# EAGLE library part Z8*0X12 (library untitled)
Z8 Encore, no ADC, 28-pin packages ZiLOG Z8 Encore 8K Series http://www.zilog.com/ (Replace 'X' in part number with '4' or '8') Replace 'X' in any part number with '4' or '8' Z8Fxxxx are Flash-based parts Z8Rxxxx are Mask ROM parts
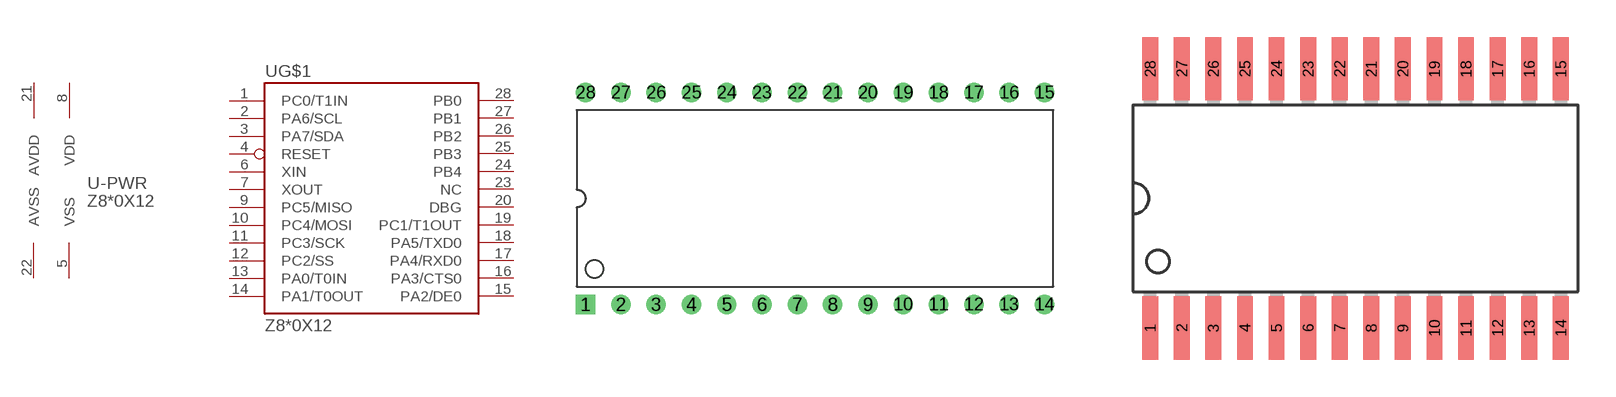
[diagram p2: symbol with the pads of PDIP-28; footprints PDIP-28, SOIC-28]

Designator prefix U; gates G$1=Z8*0X12 -PWR=PWR2A2

## Z8F0X12PJ, Z8R0X12PJ  [PDIP-28]
1  G$1:PC0/T1IN
2  G$1:PA6/SCL
3  G$1:PA7/SDA
4  G$1:RESET  in
5  -PWR:VSS  pwr
6  G$1:XIN  pas
7  G$1:XOUT  pas
8  -PWR:VDD  pwr
9  G$1:PC5/MISO
10  G$1:PC4/MOSI
11  G$1:PC3/SCK
12  G$1:PC2/SS
13  G$1:PA0/T0IN
14  G$1:PA1/T0OUT
15  G$1:PA2/DE0
16  G$1:PA3/CTS0
17  G$1:PA4/RXD0
18  G$1:PA5/TXD0
19  G$1:PC1/T1OUT
20  G$1:DBG
21  -PWR:AVDD  pwr
22  -PWR:AVSS  pwr
23  G$1:NC  nc
24  G$1:PB4
25  G$1:PB3
26  G$1:PB2
27  G$1:PB1
28  G$1:PB0

## Z8F0X12SJ, Z8R0X12SJ  [SOIC-28]
Pads as for PDIP-28

## Footprint PDIP-28 (pad centres in mm)
28-pin PDIP (Plastic Dual Inline Package)
drill 0.813 pad 1.397 square: 1 0,-7.62
drill 0.813 pad 1.397 round: 2 2.54,-7.62; 3 5.08,-7.62; 4 7.62,-7.62; 5 10.16,-7.62; 6 12.7,-7.62; 7 15.24,-7.62; 8 17.78,-7.62; 9 20.32,-7.62; 10 22.86,-7.62; 11 25.4,-7.62; 12 27.94,-7.62; 13 30.48,-7.62; 14 33.02,-7.62; 15 33.02,7.62; 16 30.48,7.62; 17 27.94,7.62; 18 25.4,7.62; 19 22.86,7.62; 20 20.32,7.62; 21 17.78,7.62; 22 15.24,7.62; 23 12.7,7.62; 24 10.16,7.62; 25 7.62,7.62; 26 5.08,7.62; 27 2.54,7.62; 28 0,7.62

## Footprint SOIC-28 (pad centres in mm)
28-pin SOIC (Small Outline Integrated Circuit)
smd 0.635 x 2.54: 1 -8.255,-5.207; 2 -6.985,-5.207; 3 -5.715,-5.207; 4 -4.445,-5.207; 5 -3.175,-5.207; 6 -1.905,-5.207; 7 -0.635,-5.207; 8 0.635,-5.207; 9 1.905,-5.207; 10 3.175,-5.207; 11 4.445,-5.207; 12 5.715,-5.207; 13 6.985,-5.207; 14 8.255,-5.207; 15 8.255,5.207; 16 6.985,5.207; 17 5.715,5.207; 18 4.445,5.207; 19 3.175,5.207; 20 1.905,5.207; 21 0.635,5.207; 22 -0.635,5.207; 23 -1.905,5.207; 24 -3.175,5.207; 25 -4.445,5.207; 26 -5.715,5.207; 27 -6.985,5.207; 28 -8.255,5.207